# Altium schematic symbol library IC Isolator.SchLib: 17 symbols
Pins are listed as number, name and electrical type; pins without a type are passive.

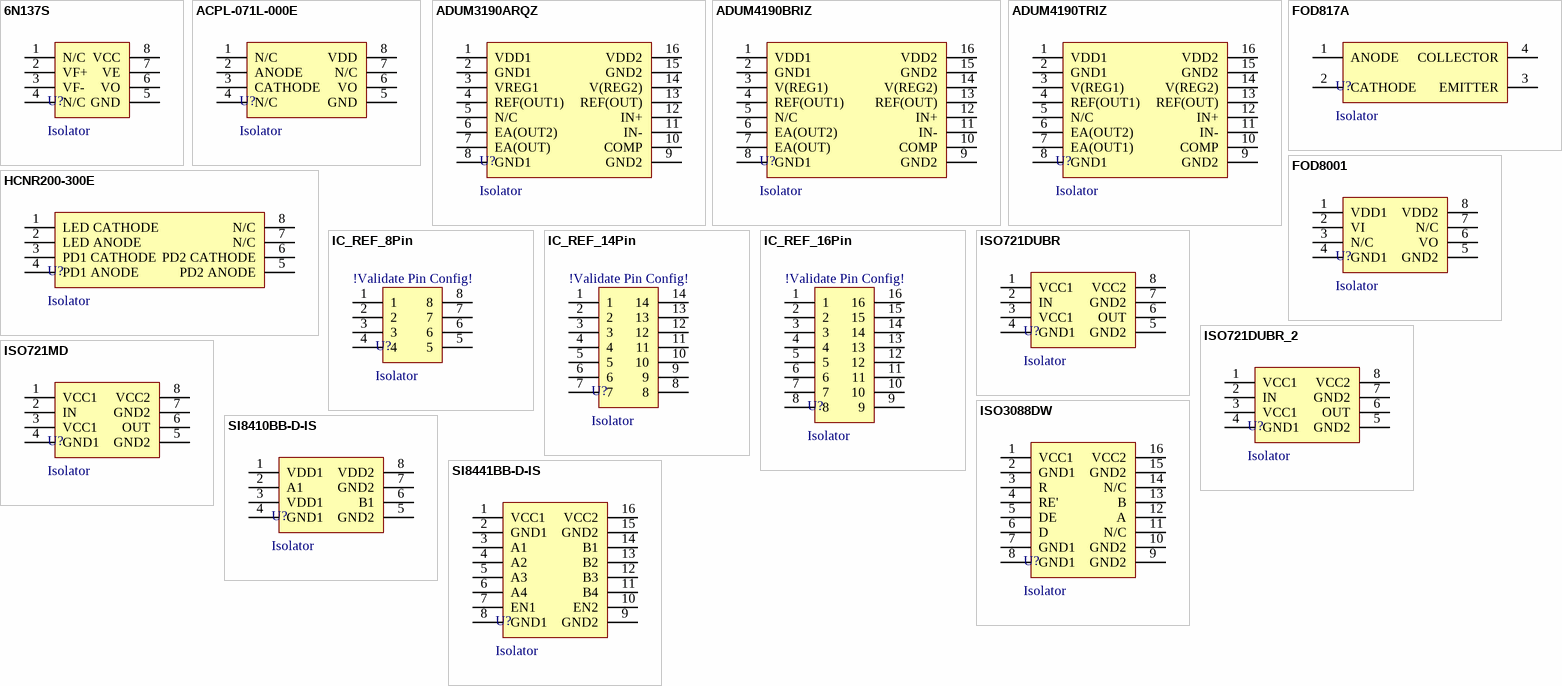
[diagram p0: symbols 6N137S to SI8441BB-D-IS]

## 6N137S
designator U?, comment Isolator
OPTOISO 2.5KV 1CH OPEN COLL 8SMD; ManufacturerReference: 6N137S; Manufacturer: ON Semiconductor; InventoryNumber: IC120; Distributor: Digikey; DistributorReference: 6N137S-ND; PackageReference: 8-SMD, Gull Wing-6.6mmWidth
footprint 8-SMD, Gull Wing-6.6mmWidth ON Semiconductor (6.6mmWidth ON Semiconductor)
pins: 1 N/C, 2 VF+, 3 VF-, 4 N/C, 5 GND, 6 VO, 7 VE, 8 VCC

## ACPL-071L-000E
designator U?, comment Isolator
OPTOISO 3.75KV PUSH PULL 8SO; ManufacturerReference: ACPL-071L-000E; Manufacturer: Broadcom Limited; InventoryNumber: IC121; Distributor: Digikey; DistributorReference: 516-2334-5-ND; PackageReference: 8SOIC-3.9mmWidth
footprint 8SOIC-3.9mmWidth (SOIC, 8-Leads, Body 4.90x3.90mm, Pitch 1.27mm, IPC High Density)
pins: 1 N/C, 2 ANODE, 3 CATHODE, 4 N/C, 5 GND, 6 VO, 7 N/C, 8 VDD

## ADUM3190ARQZ
designator U?, comment Isolator
IC AMPLIFIER ISOLATED 16-QSOP; ManufacturerReference: ADUM3190ARQZ; Manufacturer: Analog Devices Inc.; InventoryNumber: IC126; Distributor: Digikey; DistributorReference: ADUM3190ARQZ-ND; PackageReference: 16-QSOP-3.9mmWidth
footprint 16SOIC-3.9mmWidth Texas Instruments (SOIC, 16-Leads, Body 9.90x3.90mm, Pitch 1.27mm, IPC High Density)
pins: 1 VDD1, 2 GND1, 3 VREG1, 4 REF(OUT1), 5 N/C, 6 EA(OUT2), 7 EA(OUT), 8 GND1, 9 GND2, 10 COMP, 11 IN-, 12 IN+, 13 REF(OUT), 14 V(REG2), 15 GND2, 16 VDD2

## ADUM4190BRIZ
designator U?, comment Isolator
IC AMPLIFIER ISOLATED 16-SOIC; ManufacturerReference: ADUM4190BRIZ; Manufacturer: Analog Devices Inc.; InventoryNumber: IC124; Distributor: Digikey; DistributorReference: ADUM4190BRIZ-ND; PackageReference: 16-SOIC-7.5mmWidth
footprint 16SOIC-7.5mmWidth Infineon Technologies (SOIC, 16-Leads, Body 10.30x7.50mm, Pitch 1.27mm, IPC High Density)
pins: 1 VDD1, 2 GND1, 3 V(REG1), 4 REF(OUT1), 5 N/C, 6 EA(OUT2), 7 EA(OUT), 8 GND1, 9 GND2, 10 COMP, 11 IN-, 12 IN+, 13 REF(OUT), 14 V(REG2), 15 GND2, 16 VDD2

## ADUM4190TRIZ
designator U?, comment Isolator
IC AMPLIFIER ISOLATED 16-SOIC; ManufacturerReference: ADUM4190TRIZ; Manufacturer: Analog Devices Inc.; InventoryNumber: IC127; Distributor: Digikey; DistributorReference: ADUM4190TRIZ-ND; PackageReference: 16SOIC-7.5mmWidth
footprint 16SOIC-7.5mmWidth Infineon Technologies (SOIC, 16-Leads, Body 10.30x7.50mm, Pitch 1.27mm, IPC High Density)
pins: 1 VDD1, 2 GND1, 3 V(REG1), 4 REF(OUT1), 5 N/C, 6 EA(OUT2), 7 EA(OUT1), 8 GND1, 9 GND2, 10 COMP, 11 IN-, 12 IN+, 13 REF(OUT), 14 V(REG2), 15 GND2, 16 VDD2

## FOD817A
designator U?, comment Isolator
OPTOISOLATOR 5KV TRANSISTOR 4DIP; ManufacturerReference: FOD817A; Manufacturer: ON Semiconductor; InventoryNumber: IC119; Distributor: Digikey; DistributorReference: FOD817A-ND; PackageReference: 4DIP-7mmWidth
footprint DIP4-4.5x6.5mm   ON Semiconductor
pins: 1 ANODE, 2 CATHODE, 3 EMITTER, 4 COLLECTOR

## FOD8001
designator U?, comment Isolator
OPTOISO 3.75KV PUSH PULL 8SO; ManufacturerReference: FOD8001; Manufacturer: ON Semiconductor; InventoryNumber: IC122; Distributor: Digikey; DistributorReference: FOD8001-ND; PackageReference: 8SOIC-3.9mmWidth
footprint 8SOIC-3.9mmWidth (SOIC, 8-Leads, Body 4.90x3.90mm, Pitch 1.27mm, IPC High Density)
pins: 1 VDD1, 2 VI, 3 N/C, 4 GND1, 5 GND2, 6 VO, 7 N/C, 8 VDD2

## HCNR200-300E
designator U?, comment Isolator
OPTOISO 5KV LINEAR PHVOLT 8DIPGW; ManufacturerReference: HCNR200-300E; Manufacturer: Broadcom Limited; InventoryNumber: IC118; Distributor: Digikey; DistributorReference: 516-1608-5-ND; PackageReference: 8-SMD, Gull Wing-9mmWidth
footprint 8-SMD Gull WIng-9mmWidth Texas Instruments (SOP, 8-Leads, Body 11.15x9.00mm, Pitch 2.54mm, IPC High Density)
pins: 1 LED CATHODE, 2 LED ANODE, 3 PD1 CATHODE, 4 PD1 ANODE, 5 PD2 ANODE, 6 PD2 CATHODE, 7 N/C, 8 N/C

## IC_REF_8Pin
designator U?, comment Isolator
Distributor: Digikey; DistributorReference: *; InventoryNumber: *; PackageReference: *; ManufacturerReference: *; Manufacturer: *
pins: 1, 2, 3, 4, 5, 6, 7, 8
text: !Validate Pin Config!

## IC_REF_14Pin
designator U?, comment Isolator
Distributor: Digikey; DistributorReference: *; InventoryNumber: *; PackageReference: *; ManufacturerReference: *; Manufacturer: *
pins: 1, 2, 3, 4, 5, 6, 7, 8, 9, 10, 11, 12, 13, 14
text: !Validate Pin Config!

## IC_REF_16Pin
designator U?, comment Isolator
Distributor: Digikey; DistributorReference: *; InventoryNumber: *; PackageReference: *; ManufacturerReference: *; Manufacturer: *
pins: 1, 2, 3, 4, 5, 6, 7, 8, 9, 10, 11, 12, 13, 14, 15, 16
text: !Validate Pin Config!

## ISO721DUBR
designator U?, comment Isolator
DGTL ISO 2.5KV GEN PURP 8SMD; ManufacturerReference: ISO721DUBR; Manufacturer: Texas Instruments; InventoryNumber: IC128; Distributor: Digikey; DistributorReference: 296-24819-1-ND; PackageReference: 8-SMD, Gull Wing-6.6mmWidth
footprint 8-SMD, Gull Wing-6.6mmWidth ON Semiconductor (6.6mmWidth ON Semiconductor)
pins: 1 VCC1, 2 IN, 3 VCC1, 4 GND1, 5 GND2, 6 OUT, 7 GND2, 8 VCC2

## ISO721DUBR_2
designator U?, comment Isolator
DGTL ISO 2.5KV GEN PURP 8SMD; ManufacturerReference: ISO721DUBR; Manufacturer: Texas Instruments; InventoryNumber: IC129; Distributor: Digikey; DistributorReference: 296-24819-1-ND; PackageReference: 8-SMD, Gull Wing-6.6mmWidth
footprint 8-SMD, Gull Wing-6.6mmWidth ON Semiconductor (6.6mmWidth ON Semiconductor)
pins: 1 VCC1, 2 IN, 3 VCC1, 4 GND1, 5 GND2, 6 OUT, 7 GND2, 8 VCC2

## ISO721MD
designator U?, comment Isolator
DGTL ISO 2.5KV GEN PURP 8SOIC; ManufacturerReference: ISO721MD; Manufacturer: Texas Instruments; InventoryNumber: IC131; Distributor: Digikey; DistributorReference: 296-19381-ND; PackageReference: 8SOIC-3.9mmWidth
footprint 8SOIC-3.9mmWidth (SOIC, 8-Leads, Body 4.90x3.90mm, Pitch 1.27mm, IPC High Density)
pins: 1 VCC1, 2 IN, 3 VCC1, 4 GND1, 5 GND2, 6 OUT, 7 GND2, 8 VCC2

## ISO3088DW
designator U?, comment Isolator
DG ISO 2.5KV RS422/RS485 16SOIC; ManufacturerReference: ISO3088DW; Manufacturer: Texas Instruments; InventoryNumber: IC130; Distributor: Digikey; DistributorReference: 296-23490-5-ND; PackageReference: 16SOIC-7.5mmWidth
footprint 16SOIC-7.5mmWidth Infineon Technologies (SOIC, 16-Leads, Body 10.30x7.50mm, Pitch 1.27mm, IPC High Density)
pins: 1 VCC1, 2 GND1, 3 R, 4 RE', 5 DE, 6 D, 7 GND1, 8 GND1, 9 GND2, 10 GND2, 11 N/C, 12 A, 13 B, 14 N/C, 15 GND2, 16 VCC2

## SI8410BB-D-IS
designator U?, comment Isolator
DGTL ISO 2.5KV GEN PURP 8SOIC; ManufacturerReference: SI8410BB-D-IS; Manufacturer: Silicon Labs; InventoryNumber: IC123; Distributor: Digikey; DistributorReference: 336-1752-5-ND; PackageReference: 8SOIC-3.9mmWidth
footprint 8SOIC-3.9mmWidth (SOIC, 8-Leads, Body 4.90x3.90mm, Pitch 1.27mm, IPC High Density)
pins: 1 VDD1, 2 A1, 3 VDD1, 4 GND1, 5 GND2, 6 B1, 7 GND2, 8 VDD2

## SI8441BB-D-IS
designator U?, comment Isolator
DGTL ISO 2.5KV GEN PURP 16SOIC; ManufacturerReference: SI8441BB-D-IS; Manufacturer: Silicon Labs; InventoryNumber: IC125; Distributor: Digikey; DistributorReference: 336-1762-5-ND; PackageReference: 16SOIC-7.5mmWidth
footprint 16SOIC-7.5mmWidth Infineon Technologies (SOIC, 16-Leads, Body 10.30x7.50mm, Pitch 1.27mm, IPC High Density)
pins: 1 VCC1, 2 GND1, 3 A1, 4 A2, 5 A3, 6 A4, 7 EN1, 8 GND1, 9 GND2, 10 EN2, 11 B4, 12 B3, 13 B2, 14 B1, 15 GND2, 16 VCC2